# Altium integrated library Bluegiga bluetooth modules.IntLib: 1 symbol
Pins are listed as number, name and electrical type; pins without a type are passive.

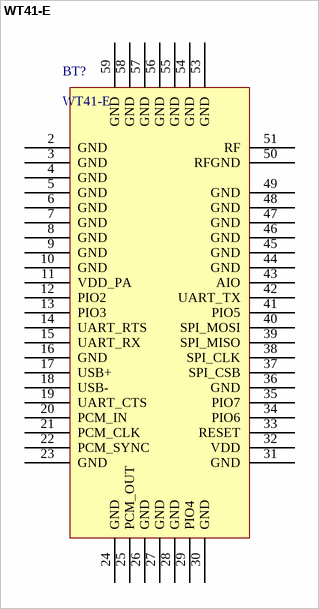
[diagram p0: symbol WT41-E]

## WT41-E
designator BT?
Bluegiga bluetooth
footprint WT41-E (Bluetooth)
pins: 2 GND, 3 GND, 4 GND, 5 GND, 6 GND, 7 GND, 8 GND, 9 GND, 10 GND, 11 VDD_PA, 12 PIO2, 13 PIO3, 14 UART_RTS, 15 UART_RX, 16 GND, 17 USB+, 18 USB-, 19 UART_CTS, 20 PCM_IN, 21 PCM_CLK, 22 PCM_SYNC, 23 GND, 24 GND, 25 PCM_OUT, 26 GND, 27 GND, 28 GND, 29 PIO4, 30 GND, 31 GND, 32 VDD, 33 RESET, 34 PIO6, 35 PIO7, 36 GND, 37 SPI_CSB, 38 SPI_CLK, 39 SPI_MISO, 40 SPI_MOSI, 41 PIO5, 42 UART_TX, 43 AIO, 44 GND, 45 GND, 46 GND, 47 GND, 48 GND, 49 GND, 50 RFGND, 51 RF, 53 GND, 54 GND, 55 GND, 56 GND, 57 GND, 58 GND, 59 GND